# Altium schematic symbol library TRANS_EE10.SchLib: 1 symbol
Pins are listed as number, name and electrical type; pins without a type are passive.

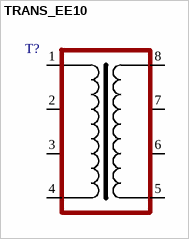
[diagram p0: symbol TRANS_EE10]

## TRANS_EE10
designator T?
footprint TRANS_EE10
pins: 1, 2, 3, 4, 5, 6, 7, 8